# Altium footprint library TSSOP-8_3x3mm.PcbLib: 1 footprints
Each footprint in its own frame and in the unit in brackets; x right, y up, seen from the top. Pads: shape width x height; smd on the part's side, far side on the other; paste and mask are expansions set on the pad; w line width, h text height; cw(c..) or ccw(c..) is an arc to the next point about the centre after c.
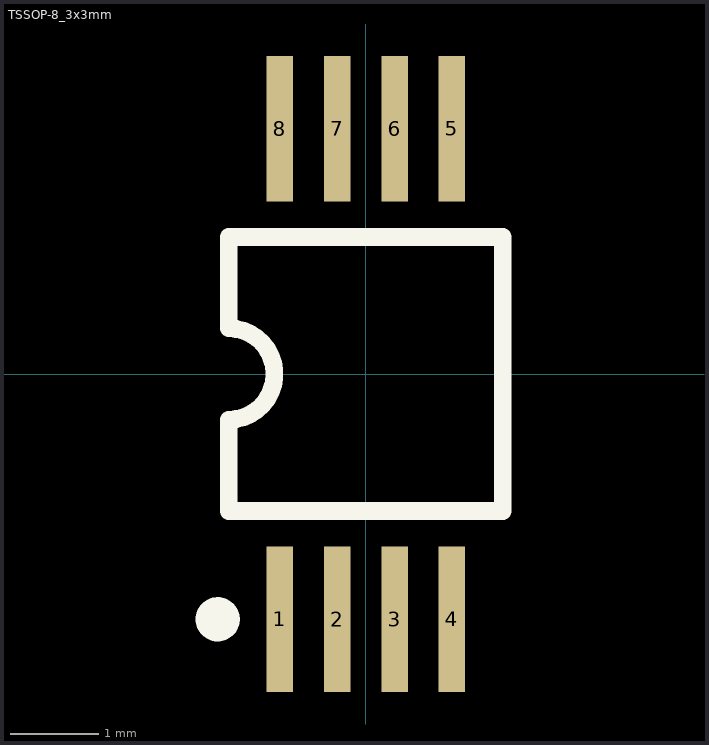
[diagram p0: the footprint, top view; thin cyan lines are the x and y axes]

## TSSOP-8_3x3mm [mm]
pads (8):
  rect 0.3x1.65 smd: 1(-0.975,-2.775) 2(-0.325,-2.775) 3(0.325,-2.775) 4(0.975,-2.775) 5(0.975,2.775) 6(0.325,2.775) 7(-0.325,2.775) 8(-0.975,2.775)
Top Overlay:
  circle w0.25: c-1.675,-2.775 r0.125
  lines w0.2: -1.55,-1.55 1.55,-1.55 1.55,1.55 -1.55,1.55 -1.55,0.517 cw(c-1.55,0) -1.55,-0.517 -1.55,-1.55
3D body: height 1.12, standoff 0.02, extent -1.576,-2.5 1.524,2.5